# Altium schematic symbol library SCH - MCU - STM32 - ST MICROELECTRONICS STM32H562RGTX LQFP64.SchLib: 1 symbol
Pins are listed as number, name and electrical type; pins without a type are passive.

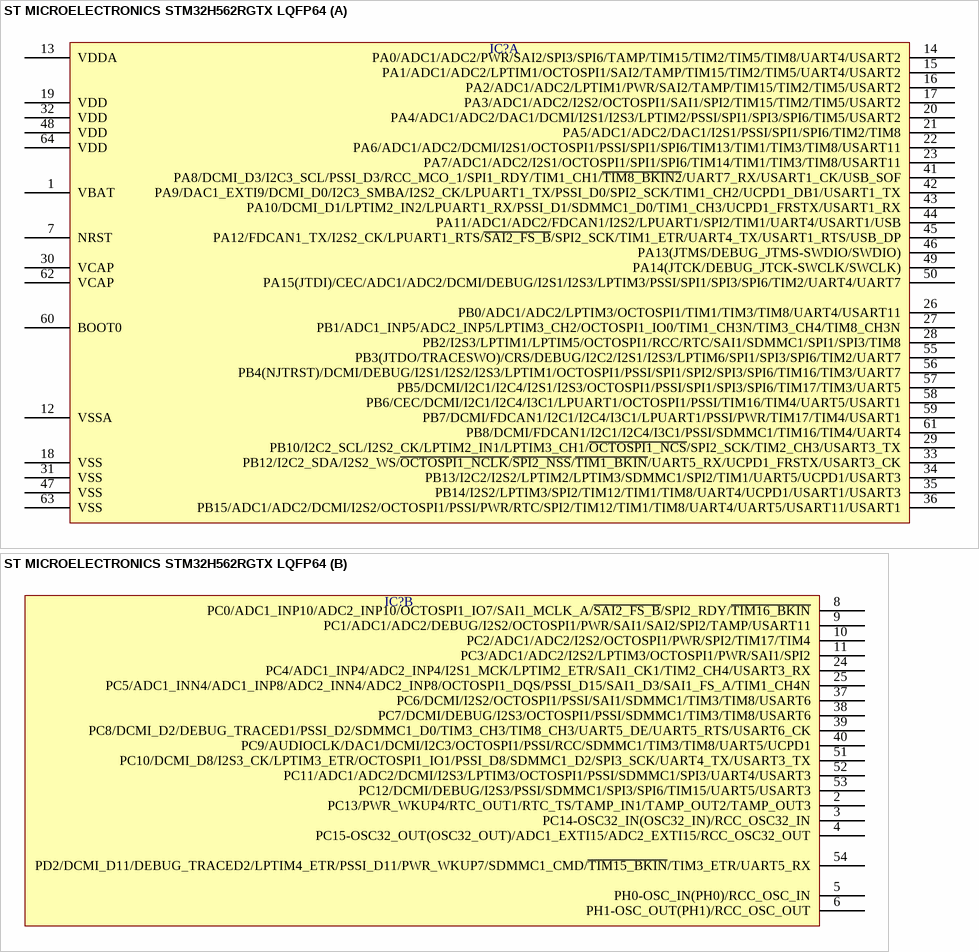
[diagram p0: symbol ST MICROELECTRONICS STM32H562RGTX LQFP64]

## ST MICROELECTRONICS STM32H562RGTX LQFP64
designator IC?  (value not drawn)
part A pins: 1 VBAT, 7 NRST, 12 VSSA, 13 VDDA, 14 PA0/ADC1/ADC2/PWR/SAI2/SPI3/SPI6/TAMP/TIM15/TIM2/TIM5/TIM8/UART4/USART2, 15 PA1/ADC1/ADC2/LPTIM1/OCTOSPI1/SAI2/TAMP/TIM15/TIM2/TIM5/UART4/USART2, 16 PA2/ADC1/ADC2/LPTIM1/PWR/SAI2/TAMP/TIM15/TIM2/TIM5/USART2, 17 PA3/ADC1/ADC2/I2S2/OCTOSPI1/SAI1/SPI2/TIM15/TIM2/TIM5/USART2, 18 VSS, 19 VDD, 20 PA4/ADC1/ADC2/DAC1/DCMI/I2S1/I2S3/LPTIM2/PSSI/SPI1/SPI3/SPI6/TIM5/USART2, 21 PA5/ADC1/ADC2/DAC1/I2S1/PSSI/SPI1/SPI6/TIM2/TIM8, 22 PA6/ADC1/ADC2/DCMI/I2S1/OCTOSPI1/PSSI/SPI1/SPI6/TIM13/TIM1/TIM3/TIM8/USART11, 23 PA7/ADC1/ADC2/I2S1/OCTOSPI1/SPI1/SPI6/TIM14/TIM1/TIM3/TIM8/USART11, 26 PB0/ADC1/ADC2/LPTIM3/OCTOSPI1/TIM1/TIM3/TIM8/UART4/USART11, 27 PB1/ADC1_INP5/ADC2_INP5/LPTIM3_CH2/OCTOSPI1_IO0/TIM1_CH3N/TIM3_CH4/TIM8_CH3N, 28 PB2/I2S3/LPTIM1/LPTIM5/OCTOSPI1/RCC/RTC/SAI1/SDMMC1/SPI1/SPI3/TIM8, 29 PB10/I2C2_SCL/I2S2_CK/LPTIM2_IN1/LPTIM3_CH1/~{OCTOSPI1_NCS}/SPI2_SCK/TIM2_CH3/USART3_TX, 30 VCAP, 31 VSS, 32 VDD, 33 PB12/I2C2_SDA/I2S2_WS/~{OCTOSPI1_NCLK}/~{SPI2_NSS}/~{TIM1_BKIN}/UART5_RX/UCPD1_FRSTX/USART3_CK, 34 PB13/I2C2/I2S2/LPTIM2/LPTIM3/SDMMC1/SPI2/TIM1/UART5/UCPD1/USART3, 35 PB14/I2S2/LPTIM3/SPI2/TIM12/TIM1/TIM8/UART4/UCPD1/USART1/USART3, 36 PB15/ADC1/ADC2/DCMI/I2S2/OCTOSPI1/PSSI/PWR/RTC/SPI2/TIM12/TIM1/TIM8/UART4/UART5/USART11/USART1, 41 PA8/DCMI_D3/I2C3_SCL/PSSI_D3/RCC_MCO_1/SPI1_RDY/TIM1_CH1/~{TIM8_BKIN2}/UART7_RX/USART1_CK/USB_SOF, 42 PA9/DAC1_EXTI9/DCMI_D0/I2C3_SMBA/I2S2_CK/LPUART1_TX/PSSI_D0/SPI2_SCK/TIM1_CH2/UCPD1_DB1/USART1_TX, 43 PA10/DCMI_D1/LPTIM2_IN2/LPUART1_RX/PSSI_D1/SDMMC1_D0/TIM1_CH3/UCPD1_FRSTX/USART1_RX, 44 PA11/ADC1/ADC2/FDCAN1/I2S2/LPUART1/SPI2/TIM1/UART4/USART1/USB, 45 PA12/FDCAN1_TX/I2S2_CK/LPUART1_RTS/~{SAI2_FS_B}/SPI2_SCK/TIM1_ETR/UART4_TX/USART1_RTS/USB_DP, 46 PA13(JTMS/DEBUG_JTMS-SWDIO/SWDIO), 47 VSS, 48 VDD, 49 PA14(JTCK/DEBUG_JTCK-SWCLK/SWCLK), 50 PA15(JTDI)/CEC/ADC1/ADC2/DCMI/DEBUG/I2S1/I2S3/LPTIM3/PSSI/SPI1/SPI3/SPI6/TIM2/UART4/UART7, 55 PB3(JTDO/TRACESWO)/CRS/DEBUG/I2C2/I2S1/I2S3/LPTIM6/SPI1/SPI3/SPI6/TIM2/UART7, 56 PB4(NJTRST)/DCMI/DEBUG/I2S1/I2S2/I2S3/LPTIM1/OCTOSPI1/PSSI/SPI1/SPI2/SPI3/SPI6/TIM16/TIM3/UART7, 57 PB5/DCMI/I2C1/I2C4/I2S1/I2S3/OCTOSPI1/PSSI/SPI1/SPI3/SPI6/TIM17/TIM3/UART5, 58 PB6/CEC/DCMI/I2C1/I2C4/I3C1/LPUART1/OCTOSPI1/PSSI/TIM16/TIM4/UART5/USART1, 59 PB7/DCMI/FDCAN1/I2C1/I2C4/I3C1/LPUART1/PSSI/PWR/TIM17/TIM4/USART1, 60 BOOT0, 61 PB8/DCMI/FDCAN1/I2C1/I2C4/I3C1/PSSI/SDMMC1/TIM16/TIM4/UART4, 62 VCAP, 63 VSS, 64 VDD
part B pins: 2 PC13/PWR_WKUP4/RTC_OUT1/RTC_TS/TAMP_IN1/TAMP_OUT2/TAMP_OUT3, 3 PC14-OSC32_IN(OSC32_IN)/RCC_OSC32_IN, 4 PC15-OSC32_OUT(OSC32_OUT)/ADC1_EXTI15/ADC2_EXTI15/RCC_OSC32_OUT, 5 PH0-OSC_IN(PH0)/RCC_OSC_IN, 6 PH1-OSC_OUT(PH1)/RCC_OSC_OUT, 8 PC0/ADC1_INP10/ADC2_INP10/OCTOSPI1_IO7/SAI1_MCLK_A/~{SAI2_FS_B}/SPI2_RDY/~{TIM16_BKIN}, 9 PC1/ADC1/ADC2/DEBUG/I2S2/OCTOSPI1/PWR/SAI1/SAI2/SPI2/TAMP/USART11, 10 PC2/ADC1/ADC2/I2S2/OCTOSPI1/PWR/SPI2/TIM17/TIM4, 11 PC3/ADC1/ADC2/I2S2/LPTIM3/OCTOSPI1/PWR/SAI1/SPI2, 24 PC4/ADC1_INP4/ADC2_INP4/I2S1_MCK/LPTIM2_ETR/SAI1_CK1/TIM2_CH4/USART3_RX, 25 PC5/ADC1_INN4/ADC1_INP8/ADC2_INN4/ADC2_INP8/OCTOSPI1_DQS/PSSI_D15/SAI1_D3/SAI1_FS_A/TIM1_CH4N, 37 PC6/DCMI/I2S2/OCTOSPI1/PSSI/SAI1/SDMMC1/TIM3/TIM8/USART6, 38 PC7/DCMI/DEBUG/I2S3/OCTOSPI1/PSSI/SDMMC1/TIM3/TIM8/USART6, 39 PC8/DCMI_D2/DEBUG_TRACED1/PSSI_D2/SDMMC1_D0/TIM3_CH3/TIM8_CH3/UART5_DE/UART5_RTS/USART6_CK, 40 PC9/AUDIOCLK/DAC1/DCMI/I2C3/OCTOSPI1/PSSI/RCC/SDMMC1/TIM3/TIM8/UART5/UCPD1, 51 PC10/DCMI_D8/I2S3_CK/LPTIM3_ETR/OCTOSPI1_IO1/PSSI_D8/SDMMC1_D2/SPI3_SCK/UART4_TX/USART3_TX, 52 PC11/ADC1/ADC2/DCMI/I2S3/LPTIM3/OCTOSPI1/PSSI/SDMMC1/SPI3/UART4/USART3, 53 PC12/DCMI/DEBUG/I2S3/PSSI/SDMMC1/SPI3/SPI6/TIM15/UART5/USART3, 54 PD2/DCMI_D11/DEBUG_TRACED2/LPTIM4_ETR/PSSI_D11/PWR_WKUP7/SDMMC1_CMD/~{TIM15_BKIN}/TIM3_ETR/UART5_RX